# Altium schematic symbol library digital_logic_design_reference_schlib.SchLib: 2 symbols
Pins are listed as number, name and electrical type; pins without a type are passive.

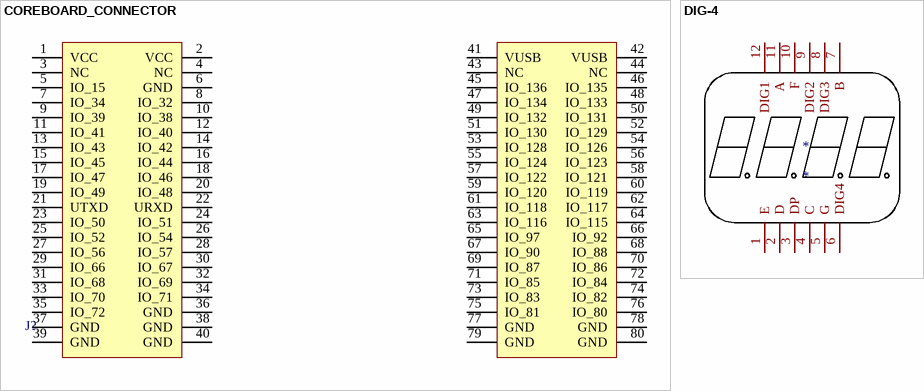
[diagram p0: symbols COREBOARD_CONNECTOR to DIG-4]

## COREBOARD_CONNECTOR
designator J?
pins: 1 VCC, 2 VCC, 3 NC, 4 NC, 5 IO_15, 6 GND, 7 IO_34, 8 IO_32, 9 IO_39, 10 IO_38, 11 IO_41, 12 IO_40, 13 IO_43, 14 IO_42, 15 IO_45, 16 IO_44, 17 IO_47, 18 IO_46, 19 IO_49, 20 IO_48, 21 UTXD, 22 URXD, 23 IO_50, 24 IO_51, 25 IO_52, 26 IO_54, 27 IO_56, 28 IO_57, 29 IO_66, 30 IO_67, 31 IO_68, 32 IO_69, 33 IO_70, 34 IO_71, 35 IO_72, 36 GND, 37 GND, 38 GND, 39 GND, 40 GND, 41 VUSB, 42 VUSB, 43 NC, 44 NC, 45 IO_136, 46 IO_135, 47 IO_134, 48 IO_133, 49 IO_132, 50 IO_131, 51 IO_130, 52 IO_129, 53 IO_128, 54 IO_126, 55 IO_124, 56 IO_123, 57 IO_122, 58 IO_121, 59 IO_120, 60 IO_119, 61 IO_118, 62 IO_117, 63 IO_116, 64 IO_115, 65 IO_97, 66 IO_92, 67 IO_90, 68 IO_88, 69 IO_87, 70 IO_86, 71 IO_85, 72 IO_84, 73 IO_83, 74 IO_82, 75 IO_81, 76 IO_80, 77 GND, 78 GND, 79 GND, 80 GND

## DIG-4
designator *
pins: 1 E, 2 D, 3 DP, 4 C, 5 G, 6 DIG4, 7 B, 8 DIG3, 9 DIG2, 10 F, 11 A, 12 DIG1